# Altium footprint library M20-9980445-8pinHeader.PcbLib: 1 footprints
Each footprint in its own frame and in the unit in brackets; x right, y up, seen from the top. Pads: shape width x height; smd on the part's side, far side on the other; paste and mask are expansions set on the pad; w line width, h text height; cw(c..) or ccw(c..) is an arc to the next point about the centre after c.
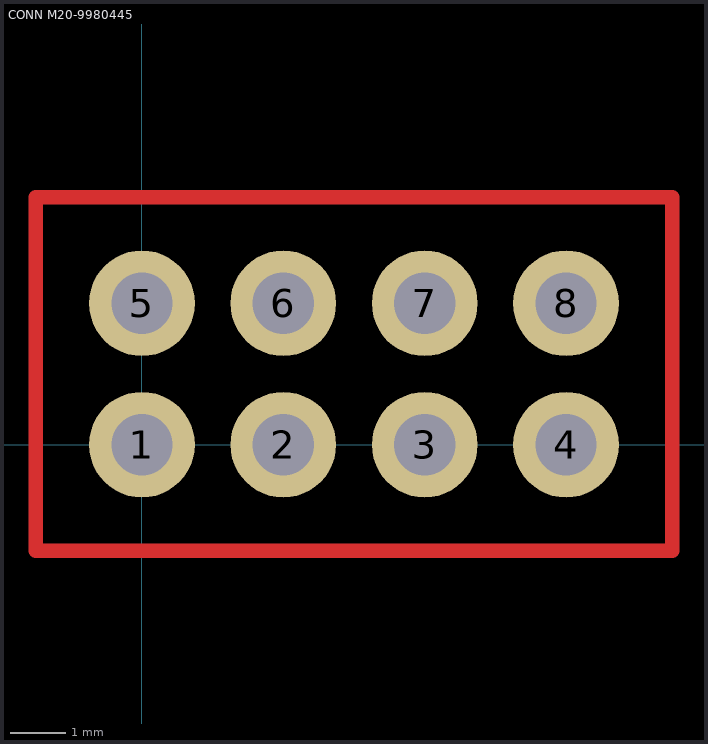
[diagram p0: the footprint, top view; thin cyan lines are the x and y axes]

## CONN M20-9980445 [mm] "4 Pin Header"
pads (8):
  round 1.9 hole 1.1: 1(0,0) 2(2.54,0) 3(5.08,0) 4(7.62,0) 5(0,2.54) 6(2.54,2.54) 7(5.08,2.54) 8(7.62,2.54)
Top Layer:
  lines w0.254: -1.905,-1.905 9.525,-1.905 9.525,4.445 -1.905,4.445 -1.905,-1.905